# Altium footprint library ComponentLibrary.PcbLib: 153 footprints (part 8 of 10)
Each footprint in its own frame and in the unit in brackets; x right, y up, seen from the top. Pads: shape width x height; smd on the part's side, far side on the other; paste and mask are expansions set on the pad; w line width, h text height; cw(c..) or ccw(c..) is an arc to the next point about the centre after c.
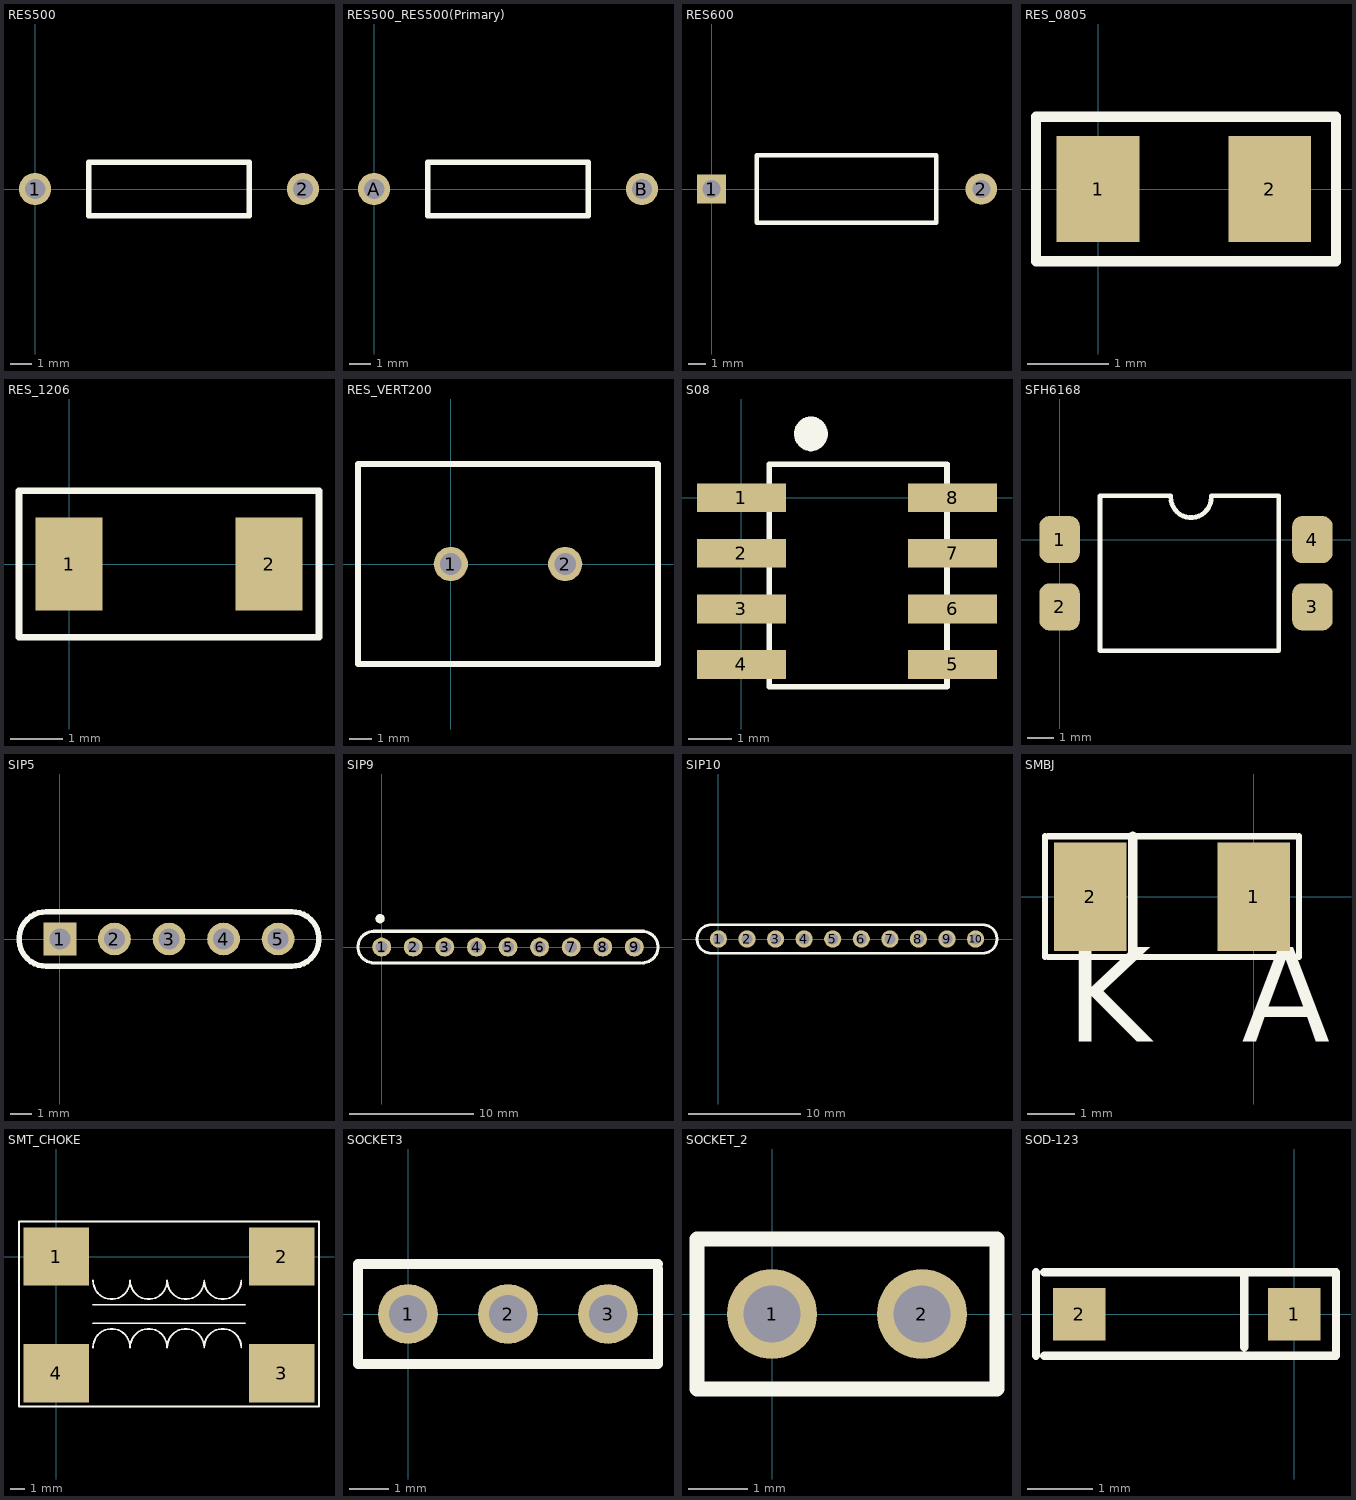
[diagram p7: the footprints below, top view; thin cyan lines are the x and y axes]

## RES500 [mil]
pads (2):
  round 60 hole 38: 1(0,0) 2(500,0)
Top Overlay:
  lines w10: 100,-50 400,-50 400,50 100,50 100,-50

## RES500_RES500(Primary) [mil]
pads (2):
  round 60 hole 38: A(0,0) B(500,0)
Top Overlay:
  lines w10: 100,-50 100,50 400,50 400,-50 100,-50

## RES600 [mil]
pads (2):
  rect 65x65 hole 40: 1(0,0)
  round 70 hole 40: 2(600,0)
Top Overlay:
  lines w10: 100,-75 500,-75 500,75 100,75 100,-75

## RES_0805 [mil]
pads (2):
  rect 40x51 smd: 1(0,0) 2(83,0)
Top Overlay:
  lines w5: -30,-35 -30,35 115,35 115,-35 -30,-35

## RES_1206 [mil]
pads (2):
  rect 50x70 smd: 1(0,0) 2(150,0)
Top Overlay:
  lines w5: -37.5,-55 -37.5,55 187.5,55 187.5,-55 -37.5,-55

## RES_VERT200 [mil]
pads (2):
  round 60 hole 38: 1(0,0) 2(200,0)
Top Overlay:
  lines w10: -162.5,-175 -162.5,175 362.5,175 362.5,-175 -162.5,-175

## S08 [mil]
pads (8):
  rect 80x26 smd: 1(0,0) 2(0,-50) 3(0,-100) 4(0,-150) 5(190,-150) 6(190,-100) 7(190,-50) 8(190,0)
Top Overlay:
  region: 60,70 50,60 50,55 60,45 70,45 75,55 75,65
  lines w5: 62,44.26 ccw(c62,57.5) 62,70.74 ; 63,44.26 cw(c63,57.5) 63,70.74 ; 25,-170 25,30 185,30 185,-170 25,-170

## SFH6168 [mil]
pads (4):
  rrect50% 60x70 smd: 1(0,0) 2(0,-100) 3(375,-100) 4(375,0)
Top Overlay:
  lines w7: 60,-165 325,-165 ; 60,-162.5 60,62.5 ; 60,65 165,65 ; 165,62.5 ccw(c195,62.5) 225,62.5 ; 225,65 325,65 ; 325,-162.5 325,62.5

## SIP5 [mil]
pads (5):
  rect 60x60 hole 38: 1(0,0)
  round 60 hole 38: 2(100,0) 3(200,0) 4(300,0) 5(400,0)
Top Overlay:
  lines w10: -25,-50 cw(c-25,0) -25,50 425,50 cw(c425,0) 425,-50 -25,-50

## SIP9 [mil]
pads (9):
  round 60 hole 38: 1(0,0) 2(100,0) 3(200,0) 4(300,0) 5(400,0) 6(500,0) 7(600,0) 8(700,0) 9(800,0)
Top Overlay:
  region: -20,90 -10,80 0,80 10,90 0,100 -10,100
  lines w7: -16.18,90 ccw(c-5,90) 6.18,90 ccw(c-5,90) -16.18,90
  lines w10: 820,-50 -25,-50 cw(c-25,0) -25,50 830,50 ; 825,-50 ccw(c825,0) 825,50

## SIP10 [mil]
pads (10):
  round 60 hole 38: 1(0,0) 2(100,0) 3(200,0) 4(300,0) 5(400,0) 6(500,0) 7(600,0) 8(700,0) 9(800,0) 10(900,0)
Top Overlay:
  lines w10: -25,-50 cw(c-25,0) -25,50 925,50 cw(c925,0) 925,-50 -25,-50

## SMBJ [mil]
pads (2):
  rect 60x90 smd: 1(0,0) 2(-135,0)
Top Overlay:
  lines w5: -172.5,-50 -172.5,50 ; -170,-50 35,-50 ; -170,50 35,50 ; 37.5,-50 37.5,50
  lines w8: -100,-45 -100,50
  text "A" at -10,-120 h78.12
  text "K" at -155,-120 h78.12

## SMT_CHOKE [mil]
pads (4):
  rect 177x157 smd: 1(0,0) 2(610,0) 3(610,-315) 4(0,-315)
Top Overlay:
  lines w5: 100,-245 cw(c150,-245) 200,-245 cw(c250,-245) 300,-245 cw(c350,-245) 400,-245 cw(c450,-245) 500,-245 ; 100,-180 510,-180 ; 100,-130 510,-130 ; 100,-65 ccw(c150,-65) 200,-65 ccw(c250,-65) 300,-65 ccw(c350,-65) 400,-65 ccw(c450,-65) 500,-65 ; -100,-405 710,-405 710,95 -100,95 -100,-405

## SOCKET3 [mil]
pads (3):
  round 60 hole 38: 1(0,0) 2(100,0) 3(200,0)
Top Overlay:
  lines w10: 250,45 250,-50 -50,-50 -50,50 250,50

## SOCKET_2 [mil]
pads (2):
  round 60 hole 38: 1(0,0) 2(100,0)
Top Overlay:
  lines w10: -50,-50 150,-50 150,50 -50,50 -50,-50

## SOD-123 [mil]
pads (2):
  rect 31.5x31.5 smd: 1(0,0) 2(-129,0)
Top Overlay:
  lines w5: -155,-25 -155,25 ; -150,-25 25,-25 25,25 -150,25 ; -30,-20 -30,25